# Altium schematic symbol library kmilo17pet-TI_BattMgmt.SchLib: 950 symbols (part 13 of 60)
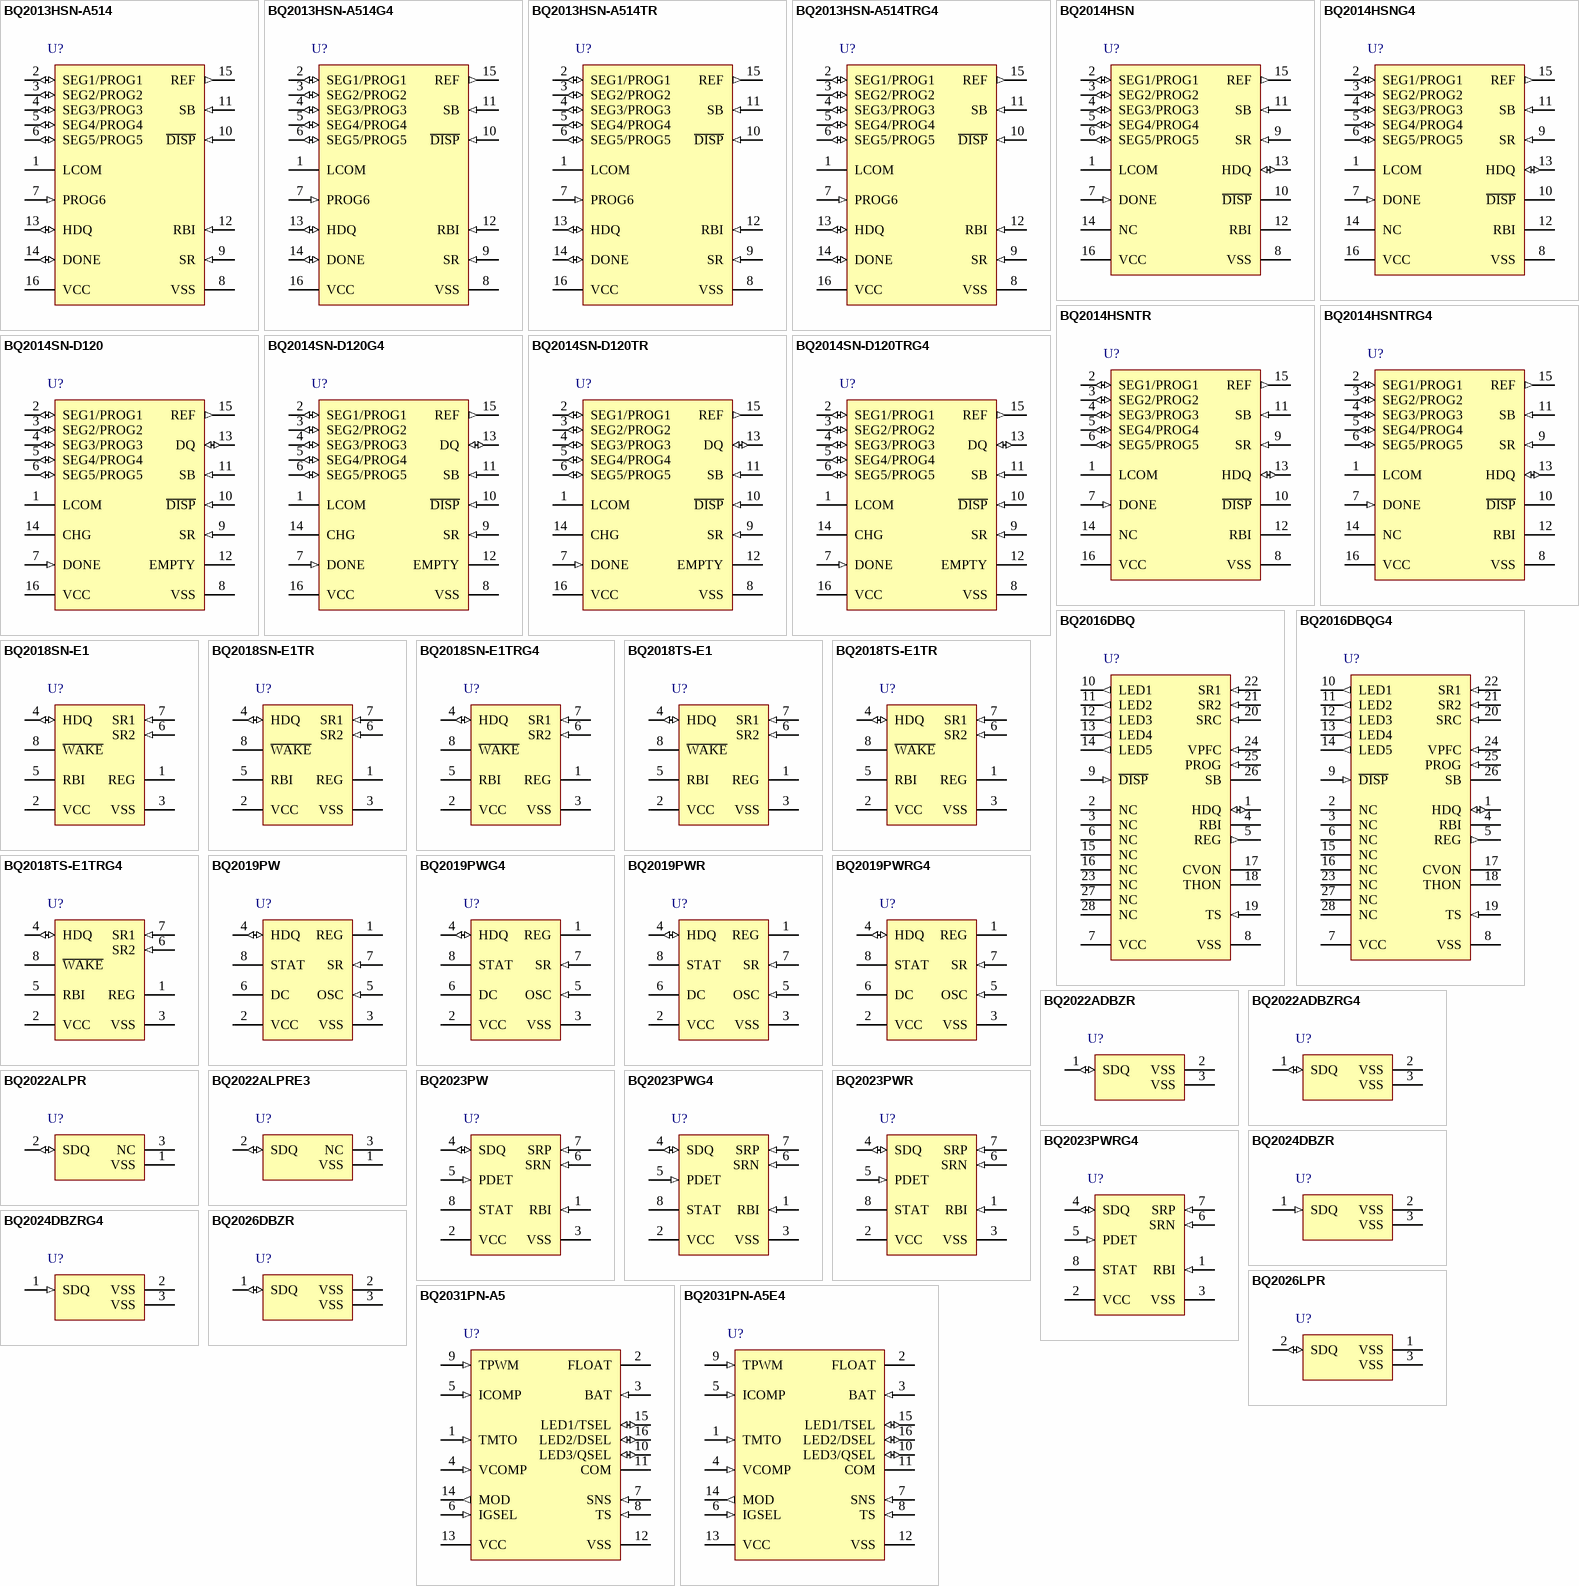
[diagram p46: symbols BQ2013HSN-A514 to BQ2031PN-A5E4]

## BQ2018TS-E1TRG4
designator U?
Multi-Chemistry Charge / Discharge Counter with High-Speed 1-Wire I / F (HDQ), -20 to 70 degC, 8-pin TSSOP (PW), Green (RoHS & no Sb/Br); PartNumber: BQ2018TS-E1TRG4; Manufacturer: Texas Instruments; Lead Acid: Y; Over Voltage Protection: N; SubFamily: Battery Fuel Gauge; DatasheetVersion: SLUS003; PackageVersion: revG, Feb-2011; PackageReference: PW8; PackageDescription: 8-Pin Plastic Thin Small Outline Package 3 x 4.4 mm Body ,0.65 mm Pitch; Supplier 1: Digi-Key; Supplier Part Number 1: BQ2018TS-E1TRG4-ND; Supplier Part Number 3: 595-BQ2018TS-E1TRG4; Eco-Plan: Green (RoHS & no Sb/Br); Li-Ion: Y; Li-Polymer: Y; NiCd: Y; NiMH: Y; Mounting Technology: Surface Mount; Code_JEDEC: MO-153; ComponentLink1Description: Datasheet; ComponentLink1URL: http://www.ti.com/general/docs/lit/getliterature.tsp?genericPartNumber=BQ2018&fileType=pdf
footprint PW8_N (TSOP, 8-Leads, Body 3x4.4mm, Pitch 0.65mm, IPC Medium Density)
footprint PW8_L (TSOP, 8-Leads, Body 3x4.4mm, Pitch 0.65mm, IPC High Density)
footprint PW8_M (TSOP, 8-Leads, Body 3x4.4mm, Pitch 0.65mm, IPC Low Density)
pins: 1 REG (power) "Regulator output.REG is the output of the operational transconductance amplifier (OTA) that drives an external pass n-channel JFET to provide an opt ional  regulated  supply. The  supply  is regulated at 3.7V nominal.", 2 VCC (power) "Supply voltage input.When regulated by the REG output, VCC is 3.7V +/-200mV. When the REG output is not used, the valid operating range is 2.8V to 5.5V.", 3 VSS (power) "Ground", 4 HDQ (io) "Data input/output.This bi-directional input/output communicates the register information to the host system. HDQ is open drain and requires a pullup/down resistor in the battery pack to disable/enable sleep mode if the pack (See Datasheet)", 5 RBI (power) "Register backup input.This input maintains the internal register states during periods when VCC is below the minimum operating voltage.", 6 SR2 (in) "Current sense inputs.The bq2018 interprets charge and discharge activity by monitoring and integrating the voltage drop (VSR) across pins SR1 and SR2.The SR1 input connects to the sense resistor and the negative terminal of (See Datasheet)", 7 SR1 (in) "Current sense inputs.The bq2018 interprets charge and discharge activity by monitoring and integrating the voltage drop (VSR) across pins SR1 and SR2.The SR1 input connects to the sense resistor and the negative terminal of (See Datasheet)", 8 ~{WAKE} (hiz) "Wake-up output.When asserted, this output is used to indicate that the charge or discharge activity is above a programmed minimal level."

## BQ2019PW
designator U?
FLASH-Based Precision Multi-Chemistry Charge / Discharge Counter with High-Speed 1-Wire I / F (HDQ) , -20 to 70 degC, 8-pin TSSOP (PW), Green (RoHS & no Sb/Br); PartNumber: BQ2019PW; Manufacturer: Texas Instruments; Lead Acid: Y; Over Voltage Protection: N; SubFamily: Battery Fuel Gauge; DatasheetVersion: SLUS465E; PackageVersion: revG, Feb-2011; PackageReference: PW8; PackageDescription: 8-Pin Plastic Thin Small Outline Package 3 x 4.4 mm Body ,0.65 mm Pitch; Supplier 1: Digi-Key; Supplier Part Number 1: 296-9348-5-ND; Supplier Part Number 3: 595-BQ2019PW; Eco-Plan: Green (RoHS & no Sb/Br); Li-Ion: Y; Li-Polymer: Y; NiCd: Y; NiMH: Y; Mounting Technology: Surface Mount; Code_JEDEC: MO-153; ComponentLink1Description: Datasheet; ComponentLink1URL: http://www.ti.com/general/docs/lit/getliterature.tsp?genericPartNumber=BQ2019&fileType=pdf
footprint PW8_N (TSOP, 8-Leads, Body 3x4.4mm, Pitch 0.65mm, IPC Medium Density)
footprint PW8_L (TSOP, 8-Leads, Body 3x4.4mm, Pitch 0.65mm, IPC High Density)
footprint PW8_M (TSOP, 8-Leads, Body 3x4.4mm, Pitch 0.65mm, IPC Low Density)
pins: 1 REG (power) "Regulator output", 2 VCC (power) "Supply voltage", 3 VSS (power) "Ground", 4 HDQ (io) "Single-wire HDQ interface", 5 OSC (in) "Time-base adjust for the oscillator", 6 DC "Internal connection only. Do not connect", 7 SR (in) "Current-sense input", 8 STAT (oc) "Open-drain status output"

## BQ2019PWG4
designator U?
FLASH-Based Precision Multi-Chemistry Charge / Discharge Counter with High-Speed 1-Wire I / F (HDQ) , -20 to 70 degC, 8-pin TSSOP (PW), Green (RoHS & no Sb/Br); PartNumber: BQ2019PWG4; Manufacturer: Texas Instruments; Lead Acid: Y; Over Voltage Protection: N; SubFamily: Battery Fuel Gauge; DatasheetVersion: SLUS465E; PackageVersion: revG, Feb-2011; PackageReference: PW8; PackageDescription: 8-Pin Plastic Thin Small Outline Package 3 x 4.4 mm Body ,0.65 mm Pitch; Supplier 1: Digi-Key; Supplier Part Number 1: BQ2019PWG4-ND; Supplier Part Number 3: 53K9216; Eco-Plan: Green (RoHS & no Sb/Br); Li-Ion: Y; Li-Polymer: Y; NiCd: Y; NiMH: Y; Mounting Technology: Surface Mount; Code_JEDEC: MO-153; ComponentLink1Description: Datasheet; ComponentLink1URL: http://www.ti.com/general/docs/lit/getliterature.tsp?genericPartNumber=BQ2019&fileType=pdf
footprint PW8_N (TSOP, 8-Leads, Body 3x4.4mm, Pitch 0.65mm, IPC Medium Density)
footprint PW8_L (TSOP, 8-Leads, Body 3x4.4mm, Pitch 0.65mm, IPC High Density)
footprint PW8_M (TSOP, 8-Leads, Body 3x4.4mm, Pitch 0.65mm, IPC Low Density)
pins: 1 REG (power) "Regulator output", 2 VCC (power) "Supply voltage", 3 VSS (power) "Ground", 4 HDQ (io) "Single-wire HDQ interface", 5 OSC (in) "Time-base adjust for the oscillator", 6 DC "Internal connection only. Do not connect", 7 SR (in) "Current-sense input", 8 STAT (oc) "Open-drain status output"

## BQ2019PWR
designator U?
FLASH-Based Precision Multi-Chemistry Charge / Discharge Counter with High-Speed 1-Wire I / F (HDQ) , -20 to 70 degC, 8-pin TSSOP (PW), Green (RoHS & no Sb/Br); PartNumber: BQ2019PWR; Manufacturer: Texas Instruments; Lead Acid: Y; Over Voltage Protection: N; SubFamily: Battery Fuel Gauge; DatasheetVersion: SLUS465E; PackageVersion: revG, Feb-2011; PackageReference: PW8; PackageDescription: 8-Pin Plastic Thin Small Outline Package 3 x 4.4 mm Body ,0.65 mm Pitch; Supplier 1: Digi-Key; Supplier Part Number 1: BQ2019PWR-ND; Supplier Part Number 3: 595-BQ2019PWR; Eco-Plan: Green (RoHS & no Sb/Br); Li-Ion: Y; Li-Polymer: Y; NiCd: Y; NiMH: Y; Mounting Technology: Surface Mount; Code_JEDEC: MO-153; ComponentLink1Description: Datasheet; ComponentLink1URL: http://www.ti.com/general/docs/lit/getliterature.tsp?genericPartNumber=BQ2019&fileType=pdf
footprint PW8_N (TSOP, 8-Leads, Body 3x4.4mm, Pitch 0.65mm, IPC Medium Density)
footprint PW8_L (TSOP, 8-Leads, Body 3x4.4mm, Pitch 0.65mm, IPC High Density)
footprint PW8_M (TSOP, 8-Leads, Body 3x4.4mm, Pitch 0.65mm, IPC Low Density)
pins: 1 REG (power) "Regulator output", 2 VCC (power) "Supply voltage", 3 VSS (power) "Ground", 4 HDQ (io) "Single-wire HDQ interface", 5 OSC (in) "Time-base adjust for the oscillator", 6 DC "Internal connection only. Do not connect", 7 SR (in) "Current-sense input", 8 STAT (oc) "Open-drain status output"

## BQ2019PWRG4
designator U?
FLASH-Based Precision Multi-Chemistry Charge / Discharge Counter with High-Speed 1-Wire I / F (HDQ) , -20 to 70 degC, 8-pin TSSOP (PW), Green (RoHS & no Sb/Br); PartNumber: BQ2019PWRG4; Manufacturer: Texas Instruments; Lead Acid: Y; Over Voltage Protection: N; SubFamily: Battery Fuel Gauge; DatasheetVersion: SLUS465E; PackageVersion: revG, Feb-2011; PackageReference: PW8; PackageDescription: 8-Pin Plastic Thin Small Outline Package 3 x 4.4 mm Body ,0.65 mm Pitch; Supplier 1: Digi-Key; Supplier Part Number 1: BQ2019PWRG4-ND; Supplier Part Number 3: 595-BQ2019PWRG4; Eco-Plan: Green (RoHS & no Sb/Br); Li-Ion: Y; Li-Polymer: Y; NiCd: Y; NiMH: Y; Mounting Technology: Surface Mount; Code_JEDEC: MO-153; ComponentLink1Description: Datasheet; ComponentLink1URL: http://www.ti.com/general/docs/lit/getliterature.tsp?genericPartNumber=BQ2019&fileType=pdf
footprint PW8_N (TSOP, 8-Leads, Body 3x4.4mm, Pitch 0.65mm, IPC Medium Density)
footprint PW8_L (TSOP, 8-Leads, Body 3x4.4mm, Pitch 0.65mm, IPC High Density)
footprint PW8_M (TSOP, 8-Leads, Body 3x4.4mm, Pitch 0.65mm, IPC Low Density)
pins: 1 REG (power) "Regulator output", 2 VCC (power) "Supply voltage", 3 VSS (power) "Ground", 4 HDQ (io) "Single-wire HDQ interface", 5 OSC (in) "Time-base adjust for the oscillator", 6 DC "Internal connection only. Do not connect", 7 SR (in) "Current-sense input", 8 STAT (oc) "Open-drain status output"

## BQ2022ADBZR
designator U?
1K Bit Serial EPROM with SDQ Interface, -20 to 70 degC, 3-pin SOT-23 (DBZ), Green (RoHS & no Sb/Br); PartNumber: BQ2022ADBZR; Manufacturer: Texas Instruments; Lead Acid: N; SubFamily: Battery Fuel Gauge,Battery Authentication; DatasheetVersion: SLUS724C; PackageVersion: revB, Apr-2005; PackageReference: DBZ3; PackageDescription: 3-Pin Plastic Small-Outline Package, 0.95 mm Pitch, 2.4 mm Lead Span; Supplier 1: Digi-Key; Supplier Part Number 1: 296-20742-2-ND; Supplier Part Number 3: 296-20742-6-ND; Eco-Plan: Green (RoHS & no Sb/Br); Li-Ion: N; Li-Polymer: N; NiCd: N; NiMH: N; Over Voltage Protection: N; Mounting Technology: Surface Mount; Code_JEDEC: TO-236-AB; ComponentLink1Description: Datasheet; ComponentLink1URL: http://www.ti.com/general/docs/lit/getliterature.tsp?genericPartNumber=BQ2022A&fileType=pdf
footprint DBZ3_N (SOT23, 3-Leads, Body 2.9x1.3mm, Pitch 0.95mm, Lead Span 2.4mm, IPC Medium Density)
footprint DBZ3_L (SOT23, 3-Leads, Body 2.9x1.3mm, Pitch 0.95mm, Lead Span 2.4mm, IPC High Density)
footprint DBZ3_M (SOT23, 3-Leads, Body 2.9x1.3mm, Pitch 0.95mm, Lead Span 2.4mm, IPC Low Density)
pins: 1 SDQ (io) "Data", 2 VSS (power) "Ground. Both pins should be connected to system ground.", 3 VSS (power) "Ground. Both pins should be connected to system ground."

## BQ2022ADBZRG4
designator U?
1K Bit Serial EPROM with SDQ Interface, -20 to 70 degC, 3-pin SOT-23 (DBZ), Green (RoHS & no Sb/Br); PartNumber: BQ2022ADBZRG4; Manufacturer: Texas Instruments; Lead Acid: N; SubFamily: Battery Fuel Gauge,Battery Authentication; DatasheetVersion: SLUS724C; PackageVersion: revB, Apr-2005; PackageReference: DBZ3; PackageDescription: 3-Pin Plastic Small-Outline Package, 0.95 mm Pitch, 2.4 mm Lead Span; Supplier 1: Digi-Key; Supplier Part Number 1: BQ2022ADBZRG4-ND; Supplier Part Number 3: 595-BQ2022ADBZRG4; Eco-Plan: Green (RoHS & no Sb/Br); Li-Ion: N; Li-Polymer: N; NiCd: N; NiMH: N; Over Voltage Protection: N; Mounting Technology: Surface Mount; Code_JEDEC: TO-236-AB; ComponentLink1Description: Datasheet; ComponentLink1URL: http://www.ti.com/general/docs/lit/getliterature.tsp?genericPartNumber=BQ2022A&fileType=pdf
footprint DBZ3_N (SOT23, 3-Leads, Body 2.9x1.3mm, Pitch 0.95mm, Lead Span 2.4mm, IPC Medium Density)
footprint DBZ3_L (SOT23, 3-Leads, Body 2.9x1.3mm, Pitch 0.95mm, Lead Span 2.4mm, IPC High Density)
footprint DBZ3_M (SOT23, 3-Leads, Body 2.9x1.3mm, Pitch 0.95mm, Lead Span 2.4mm, IPC Low Density)
pins: 1 SDQ (io) "Data", 2 VSS (power) "Ground. Both pins should be connected to system ground.", 3 VSS (power) "Ground. Both pins should be connected to system ground."

## BQ2022ALPR
designator U?
1K Bit Serial EPROM with SDQ Interface, 0 to 70 degC, 3-pin TO-92 (LP), Green (RoHS & no Sb/Br); PartNumber: BQ2022ALPR; Manufacturer: Texas Instruments; Lead Acid: N; SubFamily: Battery Fuel Gauge,Battery Authentication; DatasheetVersion: SLUS724C; PackageVersion: revC, Oct-2001; PackageReference: LP3; PackageDescription: Plastic Cylindrical Package, Formed Lead Option (TO-92); Supplier 1: Digi-Key; Supplier Part Number 1: 296-21327-3-ND; Supplier Part Number 3: 1647890; Eco-Plan: Green (RoHS & no Sb/Br); Li-Ion: N; Li-Polymer: N; NiCd: N; NiMH: N; Over Voltage Protection: N; Mounting Technology: Through Hole; Code_JEDEC: TO-226-AA; ComponentLink1Description: Datasheet; ComponentLink1URL: http://www.ti.com/general/docs/lit/getliterature.tsp?genericPartNumber=BQ2022A&fileType=pdf
footprint LP3 (TO, Flat Index; 3 In-Line, Formed Axial Leads; Body Dia. 4.8mm; Leads 0.56 x 0.41 mm (max))
pins: 1 VSS (power) "GND", 2 SDQ (io) "Data", 3 NC "No connection. This pin should be connected to system ground or left floating."

## BQ2022ALPRE3
designator U?
1K Bit Serial EPROM with SDQ Interface, 0 to 70 degC, 3-pin TO-92 (LP), Green (RoHS & no Sb/Br); PartNumber: BQ2022ALPRE3; Manufacturer: Texas Instruments; Lead Acid: N; SubFamily: Battery Fuel Gauge,Battery Authentication; DatasheetVersion: SLUS724C; PackageVersion: revC, Oct-2001; PackageReference: LP3; PackageDescription: Plastic Cylindrical Package, Formed Lead Option (TO-92); Supplier 1: Digi-Key; Supplier Part Number 1: BQ2022ALPRE3-ND; Supplier Part Number 3: 595-BQ2022ALPRE3; Eco-Plan: Green (RoHS & no Sb/Br); Li-Ion: N; Li-Polymer: N; NiCd: N; NiMH: N; Over Voltage Protection: N; Mounting Technology: Through Hole; Code_JEDEC: TO-226-AA; ComponentLink1Description: Datasheet; ComponentLink1URL: http://www.ti.com/general/docs/lit/getliterature.tsp?genericPartNumber=BQ2022A&fileType=pdf
footprint LP3 (TO, Flat Index; 3 In-Line, Formed Axial Leads; Body Dia. 4.8mm; Leads 0.56 x 0.41 mm (max))
pins: 1 VSS (power) "GND", 2 SDQ (io) "Data", 3 NC "No connection. This pin should be connected to system ground or left floating."

## BQ2023PW
designator U?
Single-Wire Advanced Battery Monitor IC for Cellular and PDA Applications, -20 to 70 degC, 8-pin TSSOP (PW), Green (RoHS & no Sb/Br); PartNumber: BQ2023PW; Manufacturer: Texas Instruments; Lead Acid: Y; Over Voltage Protection: N; SubFamily: Battery Fuel Gauge; DatasheetVersion: SLUS480B; PackageVersion: revG, Feb-2011; PackageReference: PW8; PackageDescription: 8-Pin Plastic Thin Small Outline Package 3 x 4.4 mm Body ,0.65 mm Pitch; Supplier 1: Digi-Key; Supplier Part Number 1: 296-11861-5-ND; Supplier Part Number 3: 595-BQ2023PW; Eco-Plan: Green (RoHS & no Sb/Br); Li-Ion: Y; Li-Polymer: Y; NiCd: Y; NiMH: Y; Mounting Technology: Surface Mount; Code_JEDEC: MO-153; ComponentLink1Description: Datasheet; ComponentLink1URL: http://www.ti.com/general/docs/lit/getliterature.tsp?genericPartNumber=BQ2023&fileType=pdf
footprint PW8_N (TSOP, 8-Leads, Body 3x4.4mm, Pitch 0.65mm, IPC Medium Density)
footprint PW8_L (TSOP, 8-Leads, Body 3x4.4mm, Pitch 0.65mm, IPC High Density)
footprint PW8_M (TSOP, 8-Leads, Body 3x4.4mm, Pitch 0.65mm, IPC Low Density)
pins: 1 RBI (in) "Register backup input when VCC < V(POR), VCC output when VCC > V(POR)", 2 VCC (power) "Supply voltage", 3 VSS (power) "Ground", 4 SDQ (io) "Single-wire data input/output port", 5 PDET (in) "Pack removal detection input", 6 SRN (in) "Current sense input 2", 7 SRP (in) "Current sense input 1", 8 STAT (oc) "Open-drain status output"

## BQ2023PWG4
designator U?
Single-Wire Advanced Battery Monitor IC for Cellular and PDA Applications, -20 to 70 degC, 8-pin TSSOP (PW), Green (RoHS & no Sb/Br); PartNumber: BQ2023PWG4; Manufacturer: Texas Instruments; Lead Acid: Y; Over Voltage Protection: N; SubFamily: Battery Fuel Gauge; DatasheetVersion: SLUS480B; PackageVersion: revG, Feb-2011; PackageReference: PW8; PackageDescription: 8-Pin Plastic Thin Small Outline Package 3 x 4.4 mm Body ,0.65 mm Pitch; Supplier 1: Digi-Key; Supplier Part Number 1: BQ2023PWG4-ND; Supplier Part Number 3: 595-BQ2023PWG4; Eco-Plan: Green (RoHS & no Sb/Br); Li-Ion: Y; Li-Polymer: Y; NiCd: Y; NiMH: Y; Mounting Technology: Surface Mount; Code_JEDEC: MO-153; ComponentLink1Description: Datasheet; ComponentLink1URL: http://www.ti.com/general/docs/lit/getliterature.tsp?genericPartNumber=BQ2023&fileType=pdf
footprint PW8_N (TSOP, 8-Leads, Body 3x4.4mm, Pitch 0.65mm, IPC Medium Density)
footprint PW8_L (TSOP, 8-Leads, Body 3x4.4mm, Pitch 0.65mm, IPC High Density)
footprint PW8_M (TSOP, 8-Leads, Body 3x4.4mm, Pitch 0.65mm, IPC Low Density)
pins: 1 RBI (in) "Register backup input when VCC < V(POR), VCC output when VCC > V(POR)", 2 VCC (power) "Supply voltage", 3 VSS (power) "Ground", 4 SDQ (io) "Single-wire data input/output port", 5 PDET (in) "Pack removal detection input", 6 SRN (in) "Current sense input 2", 7 SRP (in) "Current sense input 1", 8 STAT (oc) "Open-drain status output"

## BQ2023PWR
designator U?
Single-Wire Advanced Battery Monitor IC for Cellular and PDA Applications, -20 to 70 degC, 8-pin TSSOP (PW), Green (RoHS & no Sb/Br); PartNumber: BQ2023PWR; Manufacturer: Texas Instruments; Lead Acid: Y; Over Voltage Protection: N; SubFamily: Battery Fuel Gauge; DatasheetVersion: SLUS480B; PackageVersion: revG, Feb-2011; PackageReference: PW8; PackageDescription: 8-Pin Plastic Thin Small Outline Package 3 x 4.4 mm Body ,0.65 mm Pitch; Supplier 1: Digi-Key; Supplier Part Number 1: BQ2023PWR-ND; Supplier Part Number 3: 595-BQ2023PWR; Eco-Plan: Green (RoHS & no Sb/Br); Li-Ion: Y; Li-Polymer: Y; NiCd: Y; NiMH: Y; Mounting Technology: Surface Mount; Code_JEDEC: MO-153; ComponentLink1Description: Datasheet; ComponentLink1URL: http://www.ti.com/general/docs/lit/getliterature.tsp?genericPartNumber=BQ2023&fileType=pdf
footprint PW8_N (TSOP, 8-Leads, Body 3x4.4mm, Pitch 0.65mm, IPC Medium Density)
footprint PW8_L (TSOP, 8-Leads, Body 3x4.4mm, Pitch 0.65mm, IPC High Density)
footprint PW8_M (TSOP, 8-Leads, Body 3x4.4mm, Pitch 0.65mm, IPC Low Density)
pins: 1 RBI (in) "Register backup input when VCC < V(POR), VCC output when VCC > V(POR)", 2 VCC (power) "Supply voltage", 3 VSS (power) "Ground", 4 SDQ (io) "Single-wire data input/output port", 5 PDET (in) "Pack removal detection input", 6 SRN (in) "Current sense input 2", 7 SRP (in) "Current sense input 1", 8 STAT (oc) "Open-drain status output"

## BQ2023PWRG4
designator U?
Single-Wire Advanced Battery Monitor IC for Cellular and PDA Applications, -20 to 70 degC, 8-pin TSSOP (PW), Green (RoHS & no Sb/Br); PartNumber: BQ2023PWRG4; Manufacturer: Texas Instruments; Lead Acid: Y; Over Voltage Protection: N; SubFamily: Battery Fuel Gauge; DatasheetVersion: SLUS480B; PackageVersion: revG, Feb-2011; PackageReference: PW8; PackageDescription: 8-Pin Plastic Thin Small Outline Package 3 x 4.4 mm Body ,0.65 mm Pitch; Supplier 1: Digi-Key; Supplier Part Number 1: BQ2023PWRG4-ND; Supplier Part Number 3: 595-BQ2023PWRG4; Eco-Plan: Green (RoHS & no Sb/Br); Li-Ion: Y; Li-Polymer: Y; NiCd: Y; NiMH: Y; Mounting Technology: Surface Mount; Code_JEDEC: MO-153; ComponentLink1Description: Datasheet; ComponentLink1URL: http://www.ti.com/general/docs/lit/getliterature.tsp?genericPartNumber=BQ2023&fileType=pdf
footprint PW8_N (TSOP, 8-Leads, Body 3x4.4mm, Pitch 0.65mm, IPC Medium Density)
footprint PW8_L (TSOP, 8-Leads, Body 3x4.4mm, Pitch 0.65mm, IPC High Density)
footprint PW8_M (TSOP, 8-Leads, Body 3x4.4mm, Pitch 0.65mm, IPC Low Density)
pins: 1 RBI (in) "Register backup input when VCC < V(POR), VCC output when VCC > V(POR)", 2 VCC (power) "Supply voltage", 3 VSS (power) "Ground", 4 SDQ (io) "Single-wire data input/output port", 5 PDET (in) "Pack removal detection input", 6 SRN (in) "Current sense input 2", 7 SRP (in) "Current sense input 1", 8 STAT (oc) "Open-drain status output"

## BQ2024DBZR
designator U?
1.5 K Bit Serial EPROM with SDQ Interface, -20 to 70 degC, 3-pin SOT-23 (DBZ), Green (RoHS & no Sb/Br); PartNumber: BQ2024DBZR; Manufacturer: Texas Instruments; Lead Acid: Y; Over Voltage Protection: N; SubFamily: Battery Fuel Gauge; DatasheetVersion: SLUS770; PackageVersion: revB, Apr-2005; PackageReference: DBZ3; PackageDescription: 3-Pin Plastic Small-Outline Package, 0.95 mm Pitch, 2.4 mm Lead Span; Supplier 1: Digi-Key; Supplier Part Number 1: 296-21948-2-ND; Supplier Part Number 3: 296-21948-6-ND; Eco-Plan: Green (RoHS & no Sb/Br); Li-Ion: Y; Li-Polymer: Y; NiCd: Y; NiMH: Y; Mounting Technology: Surface Mount; Code_JEDEC: TO-236-AB; ComponentLink1Description: Datasheet; ComponentLink1URL: http://www.ti.com/general/docs/lit/getliterature.tsp?genericPartNumber=BQ2024&fileType=pdf
footprint DBZ3_N (SOT23, 3-Leads, Body 2.9x1.3mm, Pitch 0.95mm, Lead Span 2.4mm, IPC Medium Density)
footprint DBZ3_L (SOT23, 3-Leads, Body 2.9x1.3mm, Pitch 0.95mm, Lead Span 2.4mm, IPC High Density)
footprint DBZ3_M (SOT23, 3-Leads, Body 2.9x1.3mm, Pitch 0.95mm, Lead Span 2.4mm, IPC Low Density)
pins: 1 SDQ (in) "Data", 2 VSS (power) "Ground", 3 VSS (power) "Ground"

## BQ2024DBZRG4
designator U?
1.5 K Bit Serial EPROM with SDQ Interface, -20 to 70 degC, 3-pin SOT-23 (DBZ), Green (RoHS & no Sb/Br); PartNumber: BQ2024DBZRG4; Manufacturer: Texas Instruments; Lead Acid: Y; Over Voltage Protection: N; SubFamily: Battery Fuel Gauge; DatasheetVersion: SLUS770; PackageVersion: revB, Apr-2005; PackageReference: DBZ3; PackageDescription: 3-Pin Plastic Small-Outline Package, 0.95 mm Pitch, 2.4 mm Lead Span; Supplier 1: Digi-Key; Supplier Part Number 1: BQ2024DBZRG4-ND; Eco-Plan: Green (RoHS & no Sb/Br); Li-Ion: Y; Li-Polymer: Y; NiCd: Y; NiMH: Y; Mounting Technology: Surface Mount; Code_JEDEC: TO-236-AB; ComponentLink1Description: Datasheet; ComponentLink1URL: http://www.ti.com/general/docs/lit/getliterature.tsp?genericPartNumber=BQ2024&fileType=pdf
footprint DBZ3_N (SOT23, 3-Leads, Body 2.9x1.3mm, Pitch 0.95mm, Lead Span 2.4mm, IPC Medium Density)
footprint DBZ3_L (SOT23, 3-Leads, Body 2.9x1.3mm, Pitch 0.95mm, Lead Span 2.4mm, IPC High Density)
footprint DBZ3_M (SOT23, 3-Leads, Body 2.9x1.3mm, Pitch 0.95mm, Lead Span 2.4mm, IPC Low Density)
pins: 1 SDQ (in) "Data", 2 VSS (power) "Ground", 3 VSS (power) "Ground"

## BQ2026DBZR
designator U?
1.5 K Bit Serial EPROM with SDQ Interface, -20 to 70 degC, 3-pin SOT-23 (DBZ), Green (RoHS & no Sb/Br); PartNumber: BQ2026DBZR; Manufacturer: Texas Instruments; Lead Acid: N; SubFamily: Battery Fuel Gauge; DatasheetVersion: SLUS938; PackageVersion: revB, Apr-2005; PackageReference: DBZ3; PackageDescription: 3-Pin Plastic Small-Outline Package, 0.95 mm Pitch, 2.4 mm Lead Span; Supplier 1: Digi-Key; Supplier Part Number 1: 296-30068-2-ND; Supplier Part Number 3: 296-30068-6-ND; Eco-Plan: Green (RoHS & no Sb/Br); Li-Ion: N; Li-Polymer: N; NiCd: N; NiMH: N; Over Voltage Protection: N; Mounting Technology: Surface Mount; Code_JEDEC: TO-236-AB; ComponentLink1Description: Datasheet; ComponentLink1URL: http://www.ti.com/general/docs/lit/getliterature.tsp?genericPartNumber=BQ2026&fileType=pdf
footprint DBZ3_N (SOT23, 3-Leads, Body 2.9x1.3mm, Pitch 0.95mm, Lead Span 2.4mm, IPC Medium Density)
footprint DBZ3_L (SOT23, 3-Leads, Body 2.9x1.3mm, Pitch 0.95mm, Lead Span 2.4mm, IPC High Density)
footprint DBZ3_M (SOT23, 3-Leads, Body 2.9x1.3mm, Pitch 0.95mm, Lead Span 2.4mm, IPC Low Density)
pins: 1 SDQ (io) "Data", 2 VSS (power) "Ground", 3 VSS (power) "Ground"

## BQ2026LPR
designator U?
1.5 K Bit Serial EPROM with SDQ Interface, -20 to 70 degC, 3-pin TO-92 (LP), Pb-Free (RoHS); PartNumber: BQ2026LPR; Manufacturer: Texas Instruments; Lead Acid: N; SubFamily: Battery Fuel Gauge; DatasheetVersion: SLUS938; PackageVersion: revC, Oct-2001; PackageReference: LP3; PackageDescription: Plastic Cylindrical Package, Formed Lead Option (TO-92); Supplier 1: Digi-Key; Supplier Part Number 1: 296-30069-2-ND; Supplier Part Number 3: 296-30069-6-ND; Eco-Plan: Pb-Free (RoHS); Li-Ion: N; Li-Polymer: N; NiCd: N; NiMH: N; Over Voltage Protection: N; Mounting Technology: Through Hole; Code_JEDEC: TO-226-AA; ComponentLink1Description: Datasheet; ComponentLink1URL: http://www.ti.com/general/docs/lit/getliterature.tsp?genericPartNumber=BQ2026&fileType=pdf
footprint LP3 (TO, Flat Index; 3 In-Line, Formed Axial Leads; Body Dia. 4.8mm; Leads 0.56 x 0.41 mm (max))
pins: 1 VSS (power) "Ground", 2 SDQ (io) "Data", 3 VSS (power) "Ground"

## BQ2031PN-A5
designator U?
Switch-Mode Lead-Acid Battery Charger with User-Selectable Charge Algorithms, 4.5 V, -20 to 70 degC, 16-pin PDIP (N), Pb-Free (RoHS); PartNumber: BQ2031PN-A5; Manufacturer: Texas Instruments; Lead Acid: Y; SubFamily: Battery Charge Management; Vin(Min)(V): 4.5; DatasheetVersion: SLUS156; PackageVersion: revE, Dec-2002; PackageReference: N16; PackageDescription: 16-Pin Plastic Dual-In-Line Package, Row Spacing 7.62 mm, Pitch 2.54 mm; Supplier 1: Digi-Key; Supplier Part Number 1: 296-9349-5-ND; Supplier Part Number 3: 595-BQ2031PN-A5; Eco-Plan: Pb-Free (RoHS); Li-Ion: N; Li-Polymer: N; NiCd: N; NiMH: N; Over Voltage Protection: N; Mounting Technology: Through Hole; Code_JEDEC: MS-001*; ComponentLink1Description: Datasheet; ComponentLink1URL: http://www.ti.com/general/docs/lit/getliterature.tsp?genericPartNumber=BQ2031&fileType=pdf
footprint N16 (DIP, 16-Leads, Row Spacing 7.62mm, Pitch 2.54mm, Body 19.3x6.4mm)
pins: 1 TMTO (in) "This input sets the maximum charge time.The resistor and capacitor values are determined using equation 6. Figure 9 shows the resistor/capacitor connection.", 2 FLOAT (oc) "This open-drain output uses an external resistor divider network to control the BAT input voltage threshold (VFLT) for the float charge regulation. See Figure 1.", 3 BAT (in) "BAT is the battery voltage sense input. This potential is generally developed using a highimpedance resistor divider network connected between the positive and the negative terminals of the battery. See Figure 6 and equation (See Datasheet)", 4 VCOMP (in) "This input uses an external C or R-C network for voltage loop stability.", 5 ICOMP (in) "This input uses an external C or R-C network for current loop stability.", 6 IGSEL (in) "This three-state input is used to set IMIN for fast charge termination in the Two-Step Voltage algorithm and for maintenance current regulation in the Two-Step Current algorithm.See Tables 3 and 4.", 7 SNS (in) "Battery current is sensed via the voltage developed on this pin by an external sense resistor,RSNS, connected in series with the low side of the battery. See equation 8.", 8 TS (in) "This input is for an external battery temperature monitoring thermistor or probe. An external resistor divider network sets the lower and upper temperature thresholds.See Figures 7 and 8 and equations 4 and 5.", 9 TPWM (in) "This input uses an external timing capacitor to ground the pulse-width modulation (PWM) frequency. See equation 9.", 10 LED3/QSEL (io) "These charger status output drivers are for the direct drive of the LED display. Display modes are shown in Table 2. These outputs are tri-stated during initialization so that QSEL,TSEL, and DSEL can be read./With QSEL, (See Datasheet)", 11 COM (hiz) "Common output for LED1-3. This output is in a high-impedance state during initialization to read program inputs on TSEL,QSEL, and DSEL.", 12 VSS (power) "Ground", 13 VCC (power) "5.0V, +/- 10% power", 14 MOD (out) "MOD is a pulse-width modulated push/pull output that is used to control the charging current to the battery. MOD switches high to enable current flow and low to inhibit current flow.", 15 LED1/TSEL (io) "These charger status output drivers are for the direct drive of the LED display. Display modes are shown in Table 2. These outputs are tri-stated during initialization so that QSEL,TSEL, and DSEL can be read./With TSEL, (See Datasheet)", 16 LED2/DSEL (io) "These charger status output drivers are for the direct drive of the LED display. Display modes are shown in Table 2. These outputs are tri-stated during initialization so that QSEL,TSEL, and DSEL can be read./This (See Datasheet)"

## BQ2031PN-A5E4
designator U?
Switch-Mode Lead-Acid Battery Charger with User-Selectable Charge Algorithms, 4.5 V, -20 to 70 degC, 16-pin PDIP (N), Pb-Free (RoHS); PartNumber: BQ2031PN-A5E4; Manufacturer: Texas Instruments; Lead Acid: Y; SubFamily: Battery Charge Management; Vin(Min)(V): 4.5; DatasheetVersion: SLUS156; PackageVersion: revE, Dec-2002; PackageReference: N16; PackageDescription: 16-Pin Plastic Dual-In-Line Package, Row Spacing 7.62 mm, Pitch 2.54 mm; Supplier 1: Digi-Key; Supplier Part Number 1: BQ2031PN-A5E4-ND; Supplier Part Number 3: 595-BQ2031PN-A5E4; Eco-Plan: Pb-Free (RoHS); Li-Ion: N; Li-Polymer: N; NiCd: N; NiMH: N; Over Voltage Protection: N; Mounting Technology: Through Hole; Code_JEDEC: MS-001*; ComponentLink1Description: Datasheet; ComponentLink1URL: http://www.ti.com/general/docs/lit/getliterature.tsp?genericPartNumber=BQ2031&fileType=pdf
footprint N16 (DIP, 16-Leads, Row Spacing 7.62mm, Pitch 2.54mm, Body 19.3x6.4mm)
pins: 1 TMTO (in) "This input sets the maximum charge time.The resistor and capacitor values are determined using equation 6. Figure 9 shows the resistor/capacitor connection.", 2 FLOAT (oc) "This open-drain output uses an external resistor divider network to control the BAT input voltage threshold (VFLT) for the float charge regulation. See Figure 1.", 3 BAT (in) "BAT is the battery voltage sense input. This potential is generally developed using a highimpedance resistor divider network connected between the positive and the negative terminals of the battery. See Figure 6 and equation (See Datasheet)", 4 VCOMP (in) "This input uses an external C or R-C network for voltage loop stability.", 5 ICOMP (in) "This input uses an external C or R-C network for current loop stability.", 6 IGSEL (in) "This three-state input is used to set IMIN for fast charge termination in the Two-Step Voltage algorithm and for maintenance current regulation in the Two-Step Current algorithm.See Tables 3 and 4.", 7 SNS (in) "Battery current is sensed via the voltage developed on this pin by an external sense resistor,RSNS, connected in series with the low side of the battery. See equation 8.", 8 TS (in) "This input is for an external battery temperature monitoring thermistor or probe. An external resistor divider network sets the lower and upper temperature thresholds.See Figures 7 and 8 and equations 4 and 5.", 9 TPWM (in) "This input uses an external timing capacitor to ground the pulse-width modulation (PWM) frequency. See equation 9.", 10 LED3/QSEL (io) "These charger status output drivers are for the direct drive of the LED display. Display modes are shown in Table 2. These outputs are tri-stated during initialization so that QSEL,TSEL, and DSEL can be read./With QSEL, (See Datasheet)", 11 COM (hiz) "Common output for LED1-3. This output is in a high-impedance state during initialization to read program inputs on TSEL,QSEL, and DSEL.", 12 VSS (power) "Ground", 13 VCC (power) "5.0V, +/- 10% power", 14 MOD (out) "MOD is a pulse-width modulated push/pull output that is used to control the charging current to the battery. MOD switches high to enable current flow and low to inhibit current flow.", 15 LED1/TSEL (io) "These charger status output drivers are for the direct drive of the LED display. Display modes are shown in Table 2. These outputs are tri-stated during initialization so that QSEL,TSEL, and DSEL can be read./With TSEL, (See Datasheet)", 16 LED2/DSEL (io) "These charger status output drivers are for the direct drive of the LED display. Display modes are shown in Table 2. These outputs are tri-stated during initialization so that QSEL,TSEL, and DSEL can be read./This (See Datasheet)"

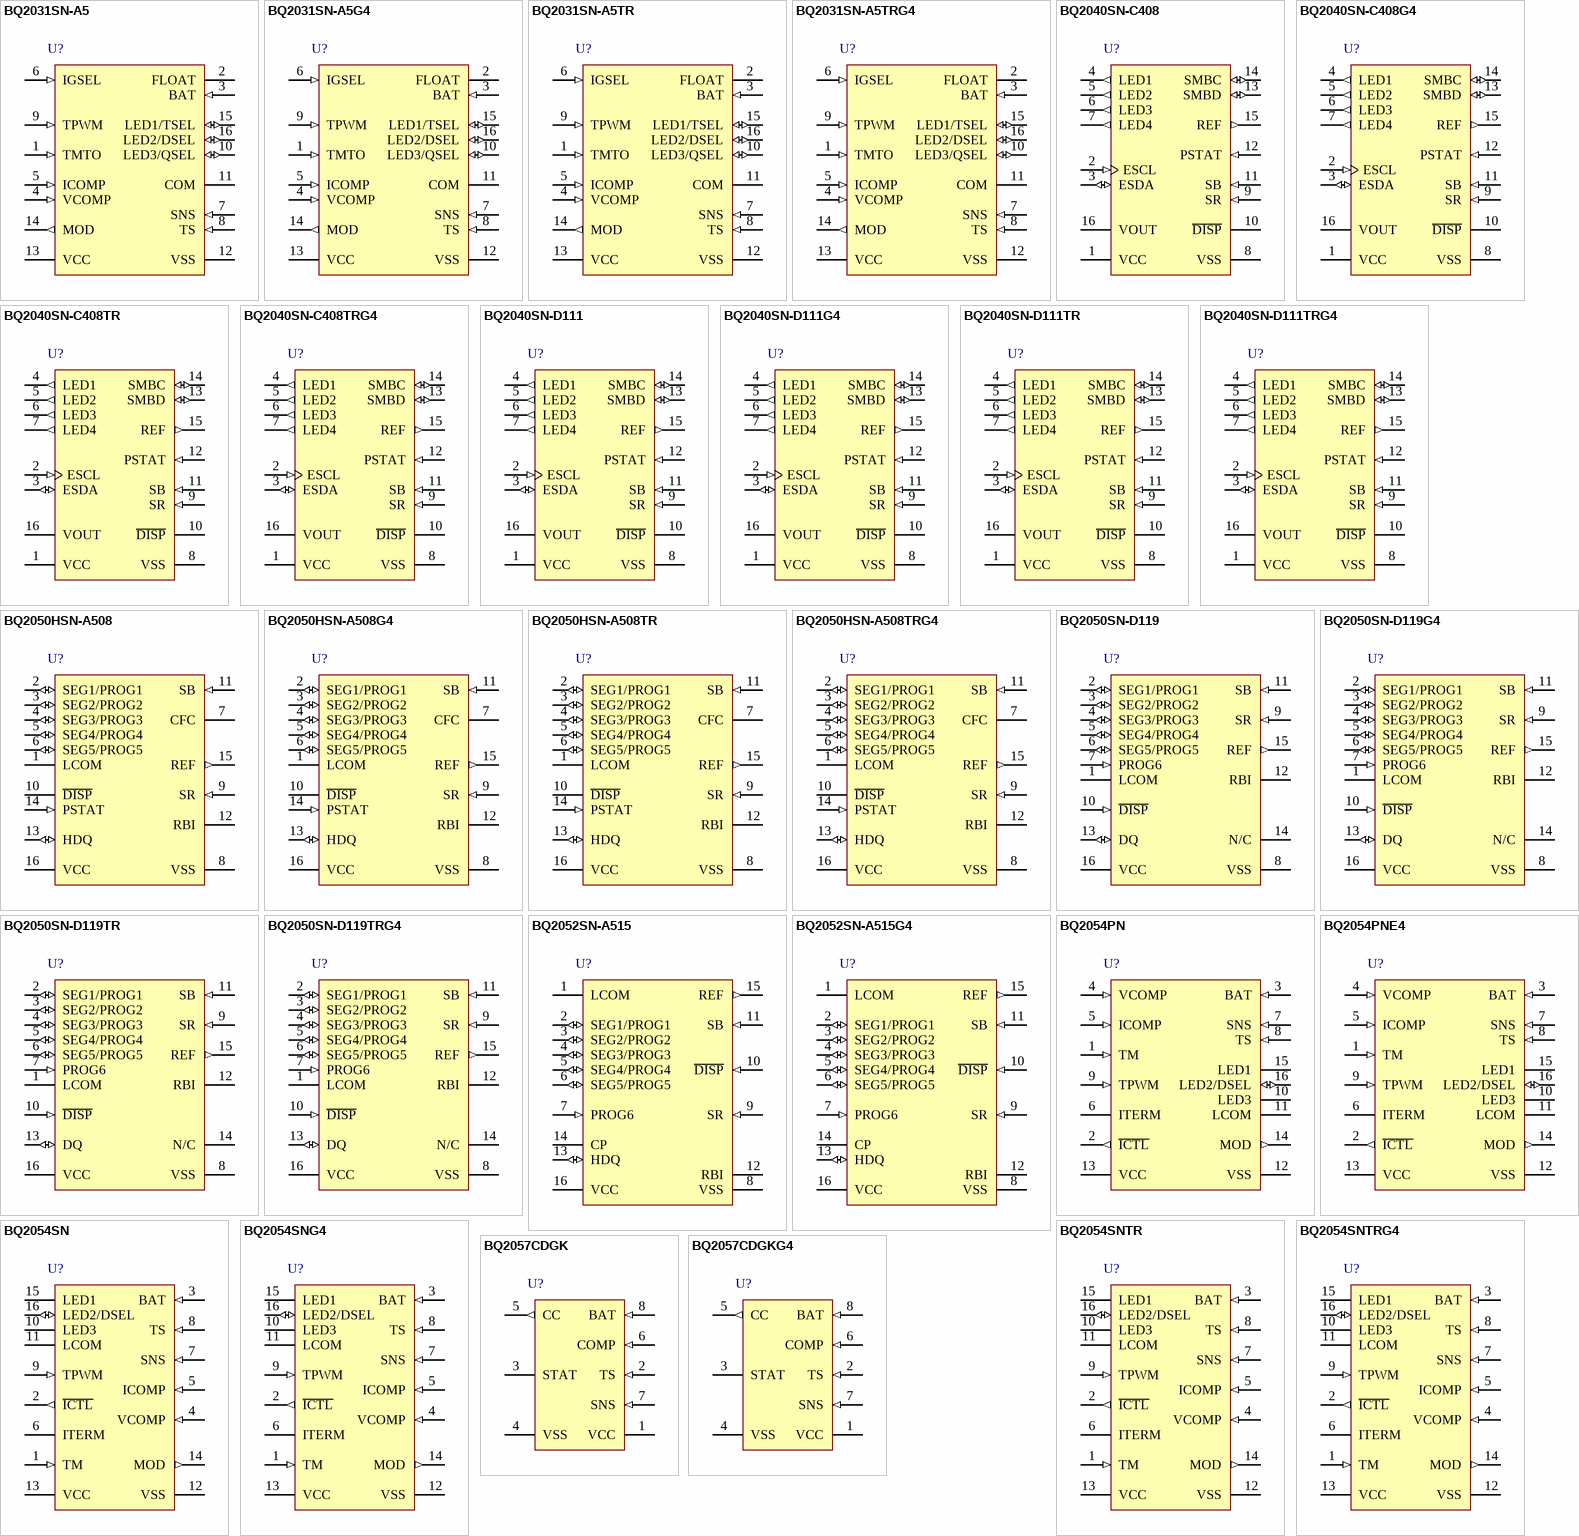
[diagram p7: symbols BQ2031SN-A5 to BQ2057CDGKG4]

## BQ2031SN-A5
designator U?
Switch-Mode Lead-Acid Battery Charger with User-Selectable Charge Algorithms, 4.5 V, -20 to 70 degC, 16-pin PDIP (N), Pb-Free (RoHS); PartNumber: BQ2031SN-A5; Manufacturer: Texas Instruments; Eco-Plan: Green (RoHS & no Sb/Br); Lead Acid: Y; SubFamily: Battery Charge Management; Vin(Min)(V): 4.5; DatasheetVersion: SLUS156; PackageVersion: revM, Jun-2011; PackageReference: D16; PackageDescription: 16-Pin Plastic Small Outline Integrated Circuit, 9.9 x 3.9 mm, Pitch 1.27 mm Pitch; Supplier 1: Digi-Key; Supplier Part Number 1: 296-9350-5-ND; Supplier Part Number 3: 36K7136; Li-Ion: N; Li-Polymer: N; NiCd: N; NiMH: N; Over Voltage Protection: N; Mounting Technology: Surface Mount; Code_JEDEC: MS-012AC; ComponentLink1Description: Datasheet; ComponentLink1URL: http://www.ti.com/general/docs/lit/getliterature.tsp?genericPartNumber=BQ2031&fileType=pdf
footprint D16_N (SOIC, 16-Leads, Body 9.9x3.9mm, Pitch 1.27mm, IPC Medium Density)
footprint D16_L (SOIC, 16-Leads, Body 9.9x3.9mm, Pitch 1.27mm, IPC High Density)
footprint D16_M (SOIC, 16-Leads, Body 9.9x3.9mm, Pitch 1.27mm, IPC Low Density)
pins: 1 TMTO (in) "This input sets the maximum charge time.The resistor and capacitor values are determined using equation 6. Figure 9 shows the resistor/capacitor connection.", 2 FLOAT (oc) "This open-drain output uses an external resistor divider network to control the BAT input voltage threshold (VFLT) for the float charge regulation. See Figure 1.", 3 BAT (in) "BAT is the battery voltage sense input. This potential is generally developed using a highimpedance resistor divider network connected between the positive and the negative terminals of the battery. See Figure 6 and equation (See Datasheet)", 4 VCOMP (in) "This input uses an external C or R-C network for voltage loop stability.", 5 ICOMP (in) "This input uses an external C or R-C network for current loop stability.", 6 IGSEL (in) "This three-state input is used to set IMIN for fast charge termination in the Two-Step Voltage algorithm and for maintenance current regulation in the Two-Step Current algorithm.See Tables 3 and 4.", 7 SNS (in) "Battery current is sensed via the voltage developed on this pin by an external sense resistor,RSNS, connected in series with the low side of the battery. See equation 8.", 8 TS (in) "This input is for an external battery temperature monitoring thermistor or probe. An external resistor divider network sets the lower and upper temperature thresholds.See Figures 7 and 8 and equations 4 and 5.", 9 TPWM (in) "This input uses an external timing capacitor to ground the pulse-width modulation (PWM) frequency. See equation 9.", 10 LED3/QSEL (io) "These charger status output drivers are for the direct drive of the LED display. Display modes are shown in Table 2. These outputs are tri-stated during initialization so that QSEL,TSEL, and DSEL can be read./With QSEL, (See Datasheet)", 11 COM (hiz) "Common output for LED1-3. This output is in a high-impedance state during initialization to read program inputs on TSEL,QSEL, and DSEL.", 12 VSS (power) "Ground", 13 VCC (power) "5.0V, +/- 10% power", 14 MOD (out) "MOD is a pulse-width modulated push/pull output that is used to control the charging current to the battery. MOD switches high to enable current flow and low to inhibit current flow.", 15 LED1/TSEL (io) "These charger status output drivers are for the direct drive of the LED display. Display modes are shown in Table 2. These outputs are tri-stated during initialization so that QSEL,TSEL, and DSEL can be read./With TSEL, (See Datasheet)", 16 LED2/DSEL (io) "These charger status output drivers are for the direct drive of the LED display. Display modes are shown in Table 2. These outputs are tri-stated during initialization so that QSEL,TSEL, and DSEL can be read./This (See Datasheet)"

## BQ2031SN-A5G4
designator U?
Switch-Mode Lead-Acid Battery Charger with User-Selectable Charge Algorithms, 4.5 V, -20 to 70 degC, 16-pin PDIP (N), Pb-Free (RoHS); PartNumber: BQ2031SN-A5G4; Manufacturer: Texas Instruments; Eco-Plan: Green (RoHS & no Sb/Br); Lead Acid: Y; SubFamily: Battery Charge Management; Vin(Min)(V): 4.5; DatasheetVersion: SLUS156; PackageVersion: revM, Jun-2011; PackageReference: D16; PackageDescription: 16-Pin Plastic Small Outline Integrated Circuit, 9.9 x 3.9 mm, Pitch 1.27 mm Pitch; Supplier 1: Digi-Key; Supplier Part Number 1: BQ2031SN-A5G4-ND; Supplier Part Number 3: 595-BQ2031SN-A5G4; Li-Ion: N; Li-Polymer: N; NiCd: N; NiMH: N; Over Voltage Protection: N; Mounting Technology: Surface Mount; Code_JEDEC: MS-012AC; ComponentLink1Description: Datasheet; ComponentLink1URL: http://www.ti.com/general/docs/lit/getliterature.tsp?genericPartNumber=BQ2031&fileType=pdf
footprint D16_N (SOIC, 16-Leads, Body 9.9x3.9mm, Pitch 1.27mm, IPC Medium Density)
footprint D16_L (SOIC, 16-Leads, Body 9.9x3.9mm, Pitch 1.27mm, IPC High Density)
footprint D16_M (SOIC, 16-Leads, Body 9.9x3.9mm, Pitch 1.27mm, IPC Low Density)
pins: 1 TMTO (in) "This input sets the maximum charge time.The resistor and capacitor values are determined using equation 6. Figure 9 shows the resistor/capacitor connection.", 2 FLOAT (oc) "This open-drain output uses an external resistor divider network to control the BAT input voltage threshold (VFLT) for the float charge regulation. See Figure 1.", 3 BAT (in) "BAT is the battery voltage sense input. This potential is generally developed using a highimpedance resistor divider network connected between the positive and the negative terminals of the battery. See Figure 6 and equation (See Datasheet)", 4 VCOMP (in) "This input uses an external C or R-C network for voltage loop stability.", 5 ICOMP (in) "This input uses an external C or R-C network for current loop stability.", 6 IGSEL (in) "This three-state input is used to set IMIN for fast charge termination in the Two-Step Voltage algorithm and for maintenance current regulation in the Two-Step Current algorithm.See Tables 3 and 4.", 7 SNS (in) "Battery current is sensed via the voltage developed on this pin by an external sense resistor,RSNS, connected in series with the low side of the battery. See equation 8.", 8 TS (in) "This input is for an external battery temperature monitoring thermistor or probe. An external resistor divider network sets the lower and upper temperature thresholds.See Figures 7 and 8 and equations 4 and 5.", 9 TPWM (in) "This input uses an external timing capacitor to ground the pulse-width modulation (PWM) frequency. See equation 9.", 10 LED3/QSEL (io) "These charger status output drivers are for the direct drive of the LED display. Display modes are shown in Table 2. These outputs are tri-stated during initialization so that QSEL,TSEL, and DSEL can be read./With QSEL, (See Datasheet)", 11 COM (hiz) "Common output for LED1-3. This output is in a high-impedance state during initialization to read program inputs on TSEL,QSEL, and DSEL.", 12 VSS (power) "Ground", 13 VCC (power) "5.0V, +/- 10% power", 14 MOD (out) "MOD is a pulse-width modulated push/pull output that is used to control the charging current to the battery. MOD switches high to enable current flow and low to inhibit current flow.", 15 LED1/TSEL (io) "These charger status output drivers are for the direct drive of the LED display. Display modes are shown in Table 2. These outputs are tri-stated during initialization so that QSEL,TSEL, and DSEL can be read./With TSEL, (See Datasheet)", 16 LED2/DSEL (io) "These charger status output drivers are for the direct drive of the LED display. Display modes are shown in Table 2. These outputs are tri-stated during initialization so that QSEL,TSEL, and DSEL can be read./This (See Datasheet)"

## BQ2031SN-A5TR
designator U?
Switch-Mode Lead-Acid Battery Charger with User-Selectable Charge Algorithms, 4.5 V, -20 to 70 degC, 16-pin PDIP (N), Pb-Free (RoHS); PartNumber: BQ2031SN-A5TR; Manufacturer: Texas Instruments; Eco-Plan: Green (RoHS & no Sb/Br); Lead Acid: Y; SubFamily: Battery Charge Management; Vin(Min)(V): 4.5; DatasheetVersion: SLUS156; PackageVersion: revM, Jun-2011; PackageReference: D16; PackageDescription: 16-Pin Plastic Small Outline Integrated Circuit, 9.9 x 3.9 mm, Pitch 1.27 mm Pitch; Supplier 1: Digi-Key; Supplier Part Number 1: 296-30430-2-ND; Supplier Part Number 3: 74C7570; Li-Ion: N; Li-Polymer: N; NiCd: N; NiMH: N; Over Voltage Protection: N; Mounting Technology: Surface Mount; Code_JEDEC: MS-012AC; ComponentLink1Description: Datasheet; ComponentLink1URL: http://www.ti.com/general/docs/lit/getliterature.tsp?genericPartNumber=BQ2031&fileType=pdf
footprint D16_N (SOIC, 16-Leads, Body 9.9x3.9mm, Pitch 1.27mm, IPC Medium Density)
footprint D16_L (SOIC, 16-Leads, Body 9.9x3.9mm, Pitch 1.27mm, IPC High Density)
footprint D16_M (SOIC, 16-Leads, Body 9.9x3.9mm, Pitch 1.27mm, IPC Low Density)
pins: 1 TMTO (in) "This input sets the maximum charge time.The resistor and capacitor values are determined using equation 6. Figure 9 shows the resistor/capacitor connection.", 2 FLOAT (oc) "This open-drain output uses an external resistor divider network to control the BAT input voltage threshold (VFLT) for the float charge regulation. See Figure 1.", 3 BAT (in) "BAT is the battery voltage sense input. This potential is generally developed using a highimpedance resistor divider network connected between the positive and the negative terminals of the battery. See Figure 6 and equation (See Datasheet)", 4 VCOMP (in) "This input uses an external C or R-C network for voltage loop stability.", 5 ICOMP (in) "This input uses an external C or R-C network for current loop stability.", 6 IGSEL (in) "This three-state input is used to set IMIN for fast charge termination in the Two-Step Voltage algorithm and for maintenance current regulation in the Two-Step Current algorithm.See Tables 3 and 4.", 7 SNS (in) "Battery current is sensed via the voltage developed on this pin by an external sense resistor,RSNS, connected in series with the low side of the battery. See equation 8.", 8 TS (in) "This input is for an external battery temperature monitoring thermistor or probe. An external resistor divider network sets the lower and upper temperature thresholds.See Figures 7 and 8 and equations 4 and 5.", 9 TPWM (in) "This input uses an external timing capacitor to ground the pulse-width modulation (PWM) frequency. See equation 9.", 10 LED3/QSEL (io) "These charger status output drivers are for the direct drive of the LED display. Display modes are shown in Table 2. These outputs are tri-stated during initialization so that QSEL,TSEL, and DSEL can be read./With QSEL, (See Datasheet)", 11 COM (hiz) "Common output for LED1-3. This output is in a high-impedance state during initialization to read program inputs on TSEL,QSEL, and DSEL.", 12 VSS (power) "Ground", 13 VCC (power) "5.0V, +/- 10% power", 14 MOD (out) "MOD is a pulse-width modulated push/pull output that is used to control the charging current to the battery. MOD switches high to enable current flow and low to inhibit current flow.", 15 LED1/TSEL (io) "These charger status output drivers are for the direct drive of the LED display. Display modes are shown in Table 2. These outputs are tri-stated during initialization so that QSEL,TSEL, and DSEL can be read./With TSEL, (See Datasheet)", 16 LED2/DSEL (io) "These charger status output drivers are for the direct drive of the LED display. Display modes are shown in Table 2. These outputs are tri-stated during initialization so that QSEL,TSEL, and DSEL can be read./This (See Datasheet)"

## BQ2031SN-A5TRG4
designator U?
Switch-Mode Lead-Acid Battery Charger with User-Selectable Charge Algorithms, 4.5 V, -20 to 70 degC, 16-pin PDIP (N), Pb-Free (RoHS); PartNumber: BQ2031SN-A5TRG4; Manufacturer: Texas Instruments; Eco-Plan: Green (RoHS & no Sb/Br); Lead Acid: Y; SubFamily: Battery Charge Management; Vin(Min)(V): 4.5; DatasheetVersion: SLUS156; PackageVersion: revM, Jun-2011; PackageReference: D16; PackageDescription: 16-Pin Plastic Small Outline Integrated Circuit, 9.9 x 3.9 mm, Pitch 1.27 mm Pitch; Supplier 1: Digi-Key; Supplier Part Number 1: BQ2031SN-A5TRG4-ND; Supplier Part Number 3: 595-BQ2031SN-A5TRG4; Li-Ion: N; Li-Polymer: N; NiCd: N; NiMH: N; Over Voltage Protection: N; Mounting Technology: Surface Mount; Code_JEDEC: MS-012AC; ComponentLink1Description: Datasheet; ComponentLink1URL: http://www.ti.com/general/docs/lit/getliterature.tsp?genericPartNumber=BQ2031&fileType=pdf
footprint D16_N (SOIC, 16-Leads, Body 9.9x3.9mm, Pitch 1.27mm, IPC Medium Density)
footprint D16_L (SOIC, 16-Leads, Body 9.9x3.9mm, Pitch 1.27mm, IPC High Density)
footprint D16_M (SOIC, 16-Leads, Body 9.9x3.9mm, Pitch 1.27mm, IPC Low Density)
pins: 1 TMTO (in) "This input sets the maximum charge time.The resistor and capacitor values are determined using equation 6. Figure 9 shows the resistor/capacitor connection.", 2 FLOAT (oc) "This open-drain output uses an external resistor divider network to control the BAT input voltage threshold (VFLT) for the float charge regulation. See Figure 1.", 3 BAT (in) "BAT is the battery voltage sense input. This potential is generally developed using a highimpedance resistor divider network connected between the positive and the negative terminals of the battery. See Figure 6 and equation (See Datasheet)", 4 VCOMP (in) "This input uses an external C or R-C network for voltage loop stability.", 5 ICOMP (in) "This input uses an external C or R-C network for current loop stability.", 6 IGSEL (in) "This three-state input is used to set IMIN for fast charge termination in the Two-Step Voltage algorithm and for maintenance current regulation in the Two-Step Current algorithm.See Tables 3 and 4.", 7 SNS (in) "Battery current is sensed via the voltage developed on this pin by an external sense resistor,RSNS, connected in series with the low side of the battery. See equation 8.", 8 TS (in) "This input is for an external battery temperature monitoring thermistor or probe. An external resistor divider network sets the lower and upper temperature thresholds.See Figures 7 and 8 and equations 4 and 5.", 9 TPWM (in) "This input uses an external timing capacitor to ground the pulse-width modulation (PWM) frequency. See equation 9.", 10 LED3/QSEL (io) "These charger status output drivers are for the direct drive of the LED display. Display modes are shown in Table 2. These outputs are tri-stated during initialization so that QSEL,TSEL, and DSEL can be read./With QSEL, (See Datasheet)", 11 COM (hiz) "Common output for LED1-3. This output is in a high-impedance state during initialization to read program inputs on TSEL,QSEL, and DSEL.", 12 VSS (power) "Ground", 13 VCC (power) "5.0V, +/- 10% power", 14 MOD (out) "MOD is a pulse-width modulated push/pull output that is used to control the charging current to the battery. MOD switches high to enable current flow and low to inhibit current flow.", 15 LED1/TSEL (io) "These charger status output drivers are for the direct drive of the LED display. Display modes are shown in Table 2. These outputs are tri-stated during initialization so that QSEL,TSEL, and DSEL can be read./With TSEL, (See Datasheet)", 16 LED2/DSEL (io) "These charger status output drivers are for the direct drive of the LED display. Display modes are shown in Table 2. These outputs are tri-stated during initialization so that QSEL,TSEL, and DSEL can be read./This (See Datasheet)"

## BQ2040SN-C408
designator U?
Multi-Chemistry Smart Battery System (SBS) 1.0 Compliant Gas Gauge with 4 LED Drivers, 0 to 70 degC, 16-pin SOIC (D), Green (RoHS & no Sb/Br); PartNumber: BQ2040SN-C408; Manufacturer: Texas Instruments; Lead Acid: Y; Li-Polymer: N; SubFamily: Battery Fuel Gauge; DatasheetVersion: SLUS005; PackageVersion: revM, Jun-2011; PackageReference: D16; PackageDescription: 16-Pin Plastic Small Outline Integrated Circuit, 9.9 x 3.9 mm, Pitch 1.27 mm Pitch; Supplier 1: Digi-Key; Supplier Part Number 1: 296-2223-5-ND; Supplier Part Number 3: 595-BQ2040SN-C408; Eco-Plan: Green (RoHS & no Sb/Br); Li-Ion: Y; NiCd: Y; NiMH: Y; Over Voltage Protection: N; Mounting Technology: Surface Mount; Code_JEDEC: MS-012AC; ComponentLink1Description: Datasheet; ComponentLink1URL: http://www.ti.com/general/docs/lit/getliterature.tsp?genericPartNumber=BQ2040&fileType=pdf
footprint D16_N (SOIC, 16-Leads, Body 9.9x3.9mm, Pitch 1.27mm, IPC Medium Density)
footprint D16_L (SOIC, 16-Leads, Body 9.9x3.9mm, Pitch 1.27mm, IPC High Density)
footprint D16_M (SOIC, 16-Leads, Body 9.9x3.9mm, Pitch 1.27mm, IPC Low Density)
pins: 1 VCC (power) "Supply voltage input", 2 ESCL (in) "Output used to clock the data transfer between the bq2040 and the external nonvolatile configuration memory.", 3 ESDA (io) "Bidirectional pin used to transfer address and data to and from the bq2040 and the external nonvolitile configuration memory.", 4 LED1 (out) "Each output may drive an external LED.", 5 LED2 (out) "Each output may drive an external LED.", 6 LED3 (out) "Each output may drive an external LED.", 7 LED4 (out) "Each output may drive an external LED.", 8 VSS (power) "Ground", 9 SR (in) "The voltage drop (VSR) across pins SR and VSS is monitored and integrated over time to interpret charge and discharge activity.The SR input is connected to the sense resistor and the negative terminal of the battery. VSR < (See Datasheet)", 10 ~{DISP} "D\I\S\P\ high disables the LED display.D\I\S\P\ floating allows the LED display to be active during charge if the rate is greater than 100mA.D\I\S\P\ low activates the display for 4 seconds.", 11 SB (in) "Monitors the pack voltage through a highimpedance resistor divider network. The pack voltage is reported in the SBD register function Voltage (0x09) and is monitored for end-of-discharge voltage and charging voltage (See Datasheet)", 12 PSTAT (in) "Provides overvoltage status from the Li-Ion protector circuit and can initiate a charge suspend request.", 13 SMBD (io) "Open-drain bidirectional pin used to transfer address and data to and from the bq2040.", 14 SMBC (io) "Open-drain bidirectional pin used to clock the data transfer to and from the bq2040.", 15 REF (out) "REF provides a reference output for an optional FET-based micro-regulator.", 16 VOUT (power) "Supplies power to the external EEPROM configuration memory."